# Altium schematic symbol library VBlib_Heatsinks.SchLib: 5 symbols
Pins are listed as number, name and electrical type; pins without a type are passive.

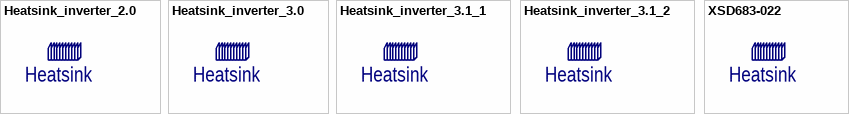
[diagram p0: symbols Heatsink_inverter_2.0 to XSD683-022]

## Heatsink_inverter_2.0
designator PI?, comment Heatsink
Heatsink for Inverter_pmu_v2.0 (Custom)
footprint HEATSINK_INVERTER2.0 (Радиатор для охлаждения симистора инвертора)
footprint HEATSINK_INVERTER2.0_NEW (Радиатор для охлаждения симистора инвертора)
1 alternate drawing of the same symbol

## Heatsink_inverter_3.0
designator PI?, comment Heatsink
Heatsink for Inverter_pmu_v3.0 (Custom); Part Number: Деталь Радиатор для печатного узла Inverter_pwr_v3.0; Value: Радиатор для печатного узла Inverter_pwr_v3.0; Component_Type: Деталь; TDD_Ispolnenie: Постоянные данные; TDD_Razdel_specifikacii: Детали; Adm_Check_1: 30.03.2019 Параметры ОК (Якубенко А.А.); Adm_Check_2: 30.03.2019 Согласование аналогов не требуется (Якубенко А.А.); TDD_Naimenovanie: Радиатор для печатного узла Inverter_pwr_v3.0; Vedomost_pokupnyh: =TDD_Naimenovanie+' '+TDD_Oboznachenie; Pin Count: 2
footprint HEATSINK_INVERTER3.0 (Heatsink for Inverter_pmu_v2.0_77.4x26x26mm (Custom))
1 alternate drawing of the same symbol

## Heatsink_inverter_3.1_1
designator PI?, comment Heatsink
Heatsink for Inverter_pmu_v3.1 (Custom); Part Number: Деталь Радиатор для печатного узла Inverter_pwr_v3.0; Value: Радиатор для печатного узла Inverter_pwr_v3.0; Component_Type: Деталь; TDD_Ispolnenie: Постоянные данные; TDD_Razdel_specifikacii: Детали; Adm_Check_1: 30.03.2019 Параметры ОК (Якубенко А.А.); Adm_Check_2: 30.03.2019 Согласование аналогов не требуется (Якубенко А.А.); TDD_Naimenovanie: Радиатор для печатного узла Inverter_pwr_v3.0; Vedomost_pokupnyh: =TDD_Naimenovanie+' '+TDD_Oboznachenie; Pin Count: 2
footprint HEATSINK_INVERTER3.1 (Heatsink for Inverter_pmu_v3.1_68x15x33mm (Custom))
1 alternate drawing of the same symbol

## Heatsink_inverter_3.1_2
designator PI?, comment Heatsink
Heatsink for Inverter_pmu_v3.1 (Custom); Part Number: Деталь Радиатор для печатного узла Inverter_pwr_v3.0; Value: Радиатор для печатного узла Inverter_pwr_v3.0; Component_Type: Деталь; TDD_Ispolnenie: Постоянные данные; TDD_Razdel_specifikacii: Детали; Adm_Check_1: 30.03.2019 Параметры ОК (Якубенко А.А.); Adm_Check_2: 30.03.2019 Согласование аналогов не требуется (Якубенко А.А.); TDD_Naimenovanie: Радиатор для печатного узла Inverter_pwr_v3.0; Vedomost_pokupnyh: =TDD_Naimenovanie+' '+TDD_Oboznachenie; Pin Count: 2
footprint HEATSINK_INVERTER3.1_2 (Heatsink for Inverter_pmu_v3.1_68x15x33mm (Custom))
1 alternate drawing of the same symbol

## XSD683-022
designator PI?, comment Heatsink
Heatsink, 35.5x11x25mm; Part Number: Деталь Радиатор для печатного узла Inverter_pwr_v3.0; Value: Радиатор для печатного узла Inverter_pwr_v3.0; Component_Type: Деталь; TDD_Ispolnenie: Постоянные данные; TDD_Razdel_specifikacii: Детали; Adm_Check_1: 30.03.2019 Параметры ОК (Якубенко А.А.); Adm_Check_2: 30.03.2019 Согласование аналогов не требуется (Якубенко А.А.); TDD_Naimenovanie: Радиатор для печатного узла Inverter_pwr_v3.0; Vedomost_pokupnyh: =TDD_Naimenovanie+' '+TDD_Oboznachenie; Pin Count: 2
footprint HEATSINK_35.5x11x25 (Molex Modular Jack with 4 terminals (TJ3-4P4C))
1 alternate drawing of the same symbol